# Altium schematic symbol library Capacitors.SchLib: 14 symbols
Pins are listed as number, name and electrical type; pins without a type are passive.

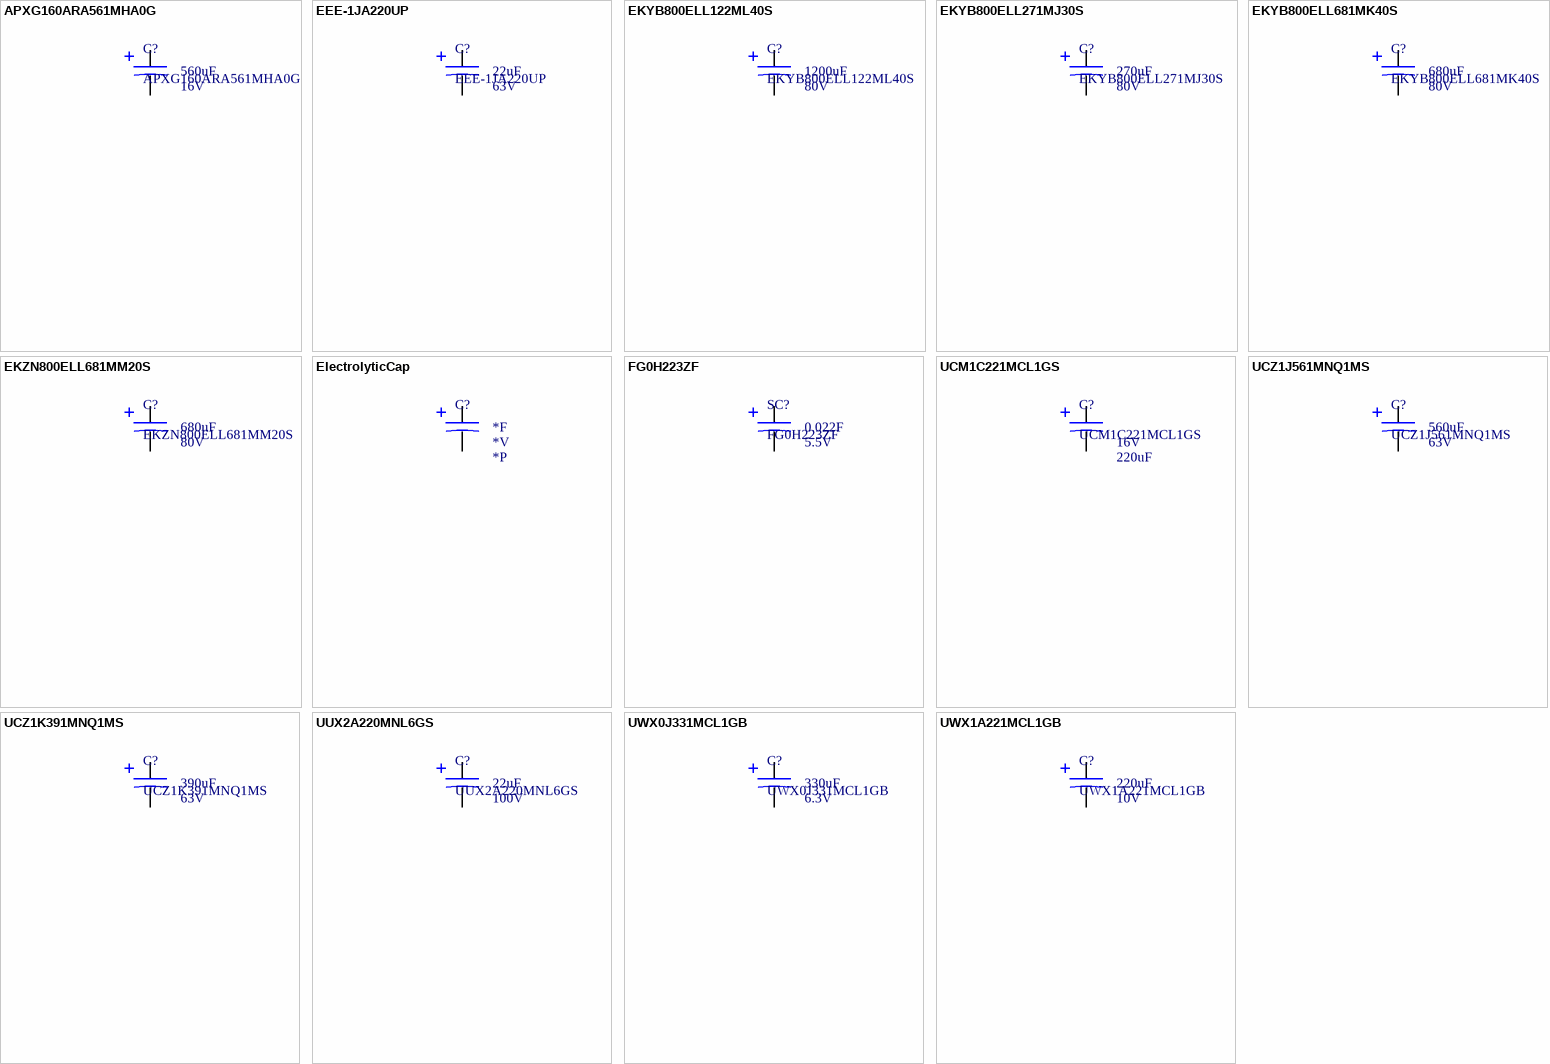
[diagram p0: symbols APXG160ARA561MHA0G to UWX1A221MCL1GB]

## APXG160ARA561MHA0G
designator C?  value 560uF  Voltage: 16V
560uF 16V Cap, SMD; PNP-Nzl: 6; PNP-dx: 0; PNP-X: 8.3; PNP-Thk: 10; PNP-Lv: 26; PNP-TS: 70; PNP-Level: 0.8; PNP-FeedType: Tape; PNP-TapeWidth: 24; PNP-PlacePriority: 5; Supplier 1: Mouser; Supplier Part Number 1: 661-APXG160A561MHA0G; Supplier 2: Digi-Key; Supplier Part Number 2: 565-4288-1-ND; PNP-dy: 0; PNP-Y: 8.3; PNP-A: 0; PNP-Pt: 0; PNP-W: 0; PNP-Type: CAP; PNP-Voff: 0; PNP-TapeIndex: 6; PNP-da: 0
footprint APXG160ARA561MHA0G
pins: 1, 2

## EEE-1JA220UP
designator C?  value 22uF  Voltage: 63V
22uF 63V Electrolytic Capacitor, SMD; PNP-Nzl: 6; PNP-dx: 0; PNP-X: 8.3; PNP-Y: 1; PNP-Pt: 2; PNP-Thk: 5.4; PNP-Lv: 26; PNP-TS: 70; PNP-Type: CAP; PNP-FeedType: Tape; PNP-TapeWidth: 16; PNP-TapeIndex: 3; PNP-dy: 0; PNP-A: 0; PNP-W: 0; PNP-Level: 1; PNP-Voff: 0; PNP-PlacePriority: 2; PNP-da: 0; Supplier 1: Digi-Key; Supplier Part Number 1: PCE3944CT-ND
footprint Panasonic EEE-1JA220UP (Electrolytic capacitor)
pins: 1, 2

## EKYB800ELL122ML40S
designator C?  value 1200uF  Voltage: 80V
1200uF 80V Cap, 16mm dia. x 40mm; PNP-Nzl: 2; PNP-dx: 0; PNP-X: 1; PNP-TS: 70; PNP-Type: CHI; PNP-FeedType: Tape; PNP-TapeWidth: 8; Supplier 1: Digi-Key; Supplier Part Number 1: 565-4003-ND; Supplier 2: Mouser; Supplier Part Number 2: 661-EKYB800E122ML40S; PNP-dy: 0; PNP-Y: 1; PNP-A: 0; PNP-Pt: 0; PNP-W: 0; PNP-Thk: 1; PNP-Lv: 1; PNP-Level: 1; PNP-Voff: 0; PNP-PlacePriority: 1; PNP-TapeIndex: 1; PNP-da: 0
footprint CapVertical_16x40x7.5Lead
pins: 1, 2

## EKYB800ELL271MJ30S
designator C?  value 270uF  Voltage: 80V
270uF 80V Cap; PNP-Nzl: 2; PNP-dx: 0; PNP-X: 1; PNP-TS: 70; PNP-Type: CHI; PNP-FeedType: Tape; PNP-TapeWidth: 8; Supplier 1: Digi-Key; Supplier Part Number 1: 565-3991-ND; Supplier 2: Mouser; Supplier Part Number 2: 661-EKYB800E271MJ30S; PNP-dy: 0; PNP-Y: 1; PNP-A: 0; PNP-Pt: 0; PNP-W: 0; PNP-Thk: 1; PNP-Lv: 1; PNP-Level: 1; PNP-Voff: 0; PNP-PlacePriority: 1; PNP-TapeIndex: 1; PNP-da: 0
footprint CAP_10X30X5LEAD
pins: 1, 2

## EKYB800ELL681MK40S
designator C?  value 680uF  Voltage: 80V
680uF 80V Cap, 12.5mm dia. x 40mm; PNP-Nzl: 2; PNP-dx: 0; PNP-X: 1; PNP-TS: 70; PNP-Type: CHI; PNP-FeedType: Tape; PNP-TapeWidth: 8; Supplier 1: Mouser; Supplier Part Number 1: 661-EKYB800E681MK40S; Supplier 2: Digi-Key; Supplier Part Number 2: 565-3998-ND; PNP-dy: 0; PNP-Y: 1; PNP-A: 0; PNP-Pt: 0; PNP-W: 0; PNP-Thk: 1; PNP-Lv: 1; PNP-Level: 1; PNP-Voff: 0; PNP-PlacePriority: 1; PNP-TapeIndex: 1; PNP-da: 0
footprint Cap_12.5x41.5x5Lead
pins: 1, 2

## EKZN800ELL681MM20S
designator C?  value 680uF  Voltage: 80V
680uF 80V Cap; PNP-Nzl: 2; PNP-dx: 0; PNP-X: 1; PNP-TS: 70; PNP-Type: CHI; PNP-FeedType: Tape; PNP-TapeWidth: 8; Supplier 1: Mouser; Supplier Part Number 1: 661-EKZN800E681MM20S; Supplier 2: Digi-Key; Supplier Part Number 2: 565-4122-ND; PNP-dy: 0; PNP-Y: 1; PNP-A: 0; PNP-Pt: 0; PNP-W: 0; PNP-Thk: 1; PNP-Lv: 1; PNP-Level: 1; PNP-Voff: 0; PNP-PlacePriority: 1; PNP-TapeIndex: 1; PNP-da: 0
footprint CapVertical_18x20x7.5Lead
pins: 1, 2

## ElectrolyticCap
designator C?  value *F  Voltage: *V  PartNumber: *P  (hidden comment: *)
PNP-Nzl: 2; PNP-dx: 0; PNP-X: 1; PNP-TS: 70; PNP-Type: CHI; PNP-FeedType: Tape; PNP-TapeWidth: 8; PNP-dy: 0; PNP-Y: 1; PNP-A: 0; PNP-Pt: 0; PNP-W: 0; PNP-Thk: 1; PNP-Lv: 1; PNP-Level: 1; PNP-Voff: 0; PNP-PlacePriority: 1; PNP-TapeIndex: 1; PNP-da: 0
footprint Cap_12.5x31.5x5Lead
footprint CAP_10X16X5LEAD
footprint Cap_12.5x41.5x5Lead
footprint CAP_6.3X11X2.5LEAD
footprint CAP_10X25X5LEAD
pins: 1, 2

## FG0H223ZF
designator SC?  value 0.022F  Voltage: 5.5V
22 mF (EDLC) Supercapacitor 5.5 V Radial, Can 200Ohm @ 1kHz; PNP-Nzl: 6; PNP-dx: 0; PNP-X: 8.3; PNP-Thk: 10; PNP-Lv: 26; PNP-TS: 70; PNP-Level: 0.8; PNP-Type: CAP; PNP-FeedType: Tape; PNP-TapeWidth: 24; PNP-PlacePriority: 5; PNP-dy: 0; PNP-Y: 8.3; PNP-A: 0; PNP-Pt: 0; PNP-W: 0; PNP-Voff: 0; PNP-TapeIndex: 6; PNP-da: 0
footprint FG0H223ZF (22 mF (EDLC) Supercapacitor 5.5 V Radial, Can 200Ohm @ 1kHz)
pins: 1, 2

## UCM1C221MCL1GS
designator C?  value 220uF  Voltage: 16V
220uF 16V Electrolytic Capacitor, SMD 6.3mm dia x 6.1mm height; PNP-Nzl: 6; PNP-dx: 0; PNP-X: 8.3; PNP-Y: 1; PNP-Pt: 2; PNP-Thk: 5.4; PNP-Lv: 26; PNP-TS: 70; PNP-Type: CAP; PNP-FeedType: Tape; PNP-TapeWidth: 16; PNP-TapeIndex: 3; PNP-dy: 0; PNP-A: 0; PNP-W: 0; PNP-Level: 1; PNP-Voff: 0; PNP-PlacePriority: 2; PNP-da: 0; Supplier 1: Digi-Key; Supplier Part Number 1: 493-14527-1-ND
footprint SMT cap -  6.6mm x 6.6mm land (Electrolytic capacitor)
pins: 1, 2

## UCZ1J561MNQ1MS
designator C?  value 560uF  Voltage: 63V
560uF 63V Electrolytic Capacitor, SMD; PNP-Nzl: 2; PNP-dx: 0; PNP-X: 17; PNP-Thk: 22; PNP-Lv: 1; PNP-TS: 70; PNP-Type: CAP; PNP-FeedType: Tape; PNP-TapeWidth: 24; PNP-TapeIndex: 5; PNP-dy: 0; PNP-Y: 17; PNP-A: 0; PNP-Pt: 0; PNP-W: 0; PNP-Level: 1; PNP-Voff: 0; PNP-PlacePriority: 1; Supplier 1: Digi-Key; Supplier Part Number 1: 493-13954-2-ND; Supplier 2: Arrow; Supplier Part Number 2: HEILGRzW1QU2NUw2Ka5Y9xSwWjTAdDtiJRBhNTOyBIA; PNP-da: 0
footprint Nichicon UCZ - 16mm x 21.5mm (Electrolytic capacitor)
pins: 1, 2

## UCZ1K391MNQ1MS
designator C?  value 390uF  Voltage: 63V
390uF 80V Electrolytic Capacitor, SMD; PNP-Nzl: 2; PNP-dx: 0; PNP-X: 17; PNP-Thk: 22; PNP-Lv: 1; PNP-TS: 70; PNP-Type: CAP; PNP-FeedType: Tape; PNP-TapeWidth: 24; PNP-TapeIndex: 5; PNP-dy: 0; PNP-Y: 17; PNP-A: 0; PNP-Pt: 0; PNP-W: 0; PNP-Level: 1; PNP-Voff: 0; PNP-PlacePriority: 1; Supplier 1: Digi-Key; Supplier Part Number 1: 493-13959-2-ND; PNP-da: 0
footprint Nichicon UCZ - 16mm x 21.5mm (Electrolytic capacitor)
pins: 1, 2

## UUX2A220MNL6GS
designator C?  value 22uF  Voltage: 100V
22uF 100V Electrolytic Capacitor, SMD; PNP-Nzl: 6; PNP-dx: 0; PNP-X: 8.3; PNP-Y: 1; PNP-Pt: 2; PNP-Thk: 5.4; PNP-Lv: 26; PNP-TS: 70; PNP-Type: CAP; PNP-FeedType: Tape; PNP-TapeWidth: 16; PNP-TapeIndex: 3; PNP-dy: 0; PNP-A: 0; PNP-W: 0; PNP-Level: 1; PNP-Voff: 0; PNP-PlacePriority: 2; PNP-da: 0
footprint UUX2A220MNL6GS (Electrolytic capacitor)
pins: 1, 2

## UWX0J331MCL1GB
designator C?  value 330uF  Voltage: 6.3V
330uF 6.3V Electrolytic Capacitor, SMD; PNP-Nzl: 6; PNP-dx: 0; PNP-X: 8.3; PNP-Y: 1; PNP-Pt: 2; PNP-Thk: 5.4; PNP-Lv: 26; PNP-TS: 70; PNP-Type: CAP; PNP-FeedType: Tape; PNP-TapeWidth: 16; PNP-TapeIndex: 3; PNP-dy: 0; PNP-A: 0; PNP-W: 0; PNP-Level: 1; PNP-Voff: 0; PNP-PlacePriority: 2; PNP-da: 0; Supplier 1: Arrow; Supplier Part Number 1: 7G4phNnuMtSHnyYL09mgt12XVIRFLCsPnz8DCErUu14ZVywxIBNyoAQstvnyfZZ0; Supplier 2: Digi-Key; Supplier Part Number 2: 493-2091-1-ND
footprint Nichicon UWX - 8mm x 5.5mm (Electrolytic capacitor)
pins: 1, 2

## UWX1A221MCL1GB
designator C?  value 220uF  Voltage: 10V
220uF 10V Electrolytic Capacitor, SMD; PNP-Nzl: 6; PNP-dx: 0; PNP-X: 8.3; PNP-Y: 1; PNP-Pt: 2; PNP-Thk: 5.4; PNP-Lv: 26; PNP-TS: 70; PNP-Type: CAP; PNP-FeedType: Tape; PNP-TapeWidth: 16; PNP-TapeIndex: 3; PNP-dy: 0; PNP-A: 0; PNP-W: 0; PNP-Level: 1; PNP-Voff: 0; PNP-PlacePriority: 2; PNP-da: 0; Supplier 1: Digi-Key; Supplier Part Number 1: 493-2098-1-ND
footprint Nichicon UWX - 8mm x 5.5mm (Electrolytic capacitor)
pins: 1, 2